# Altium integrated library Analog Devices Data Converters Analog-to-Digital Converters.IntLib: 2404 symbols (part 3 of 346)
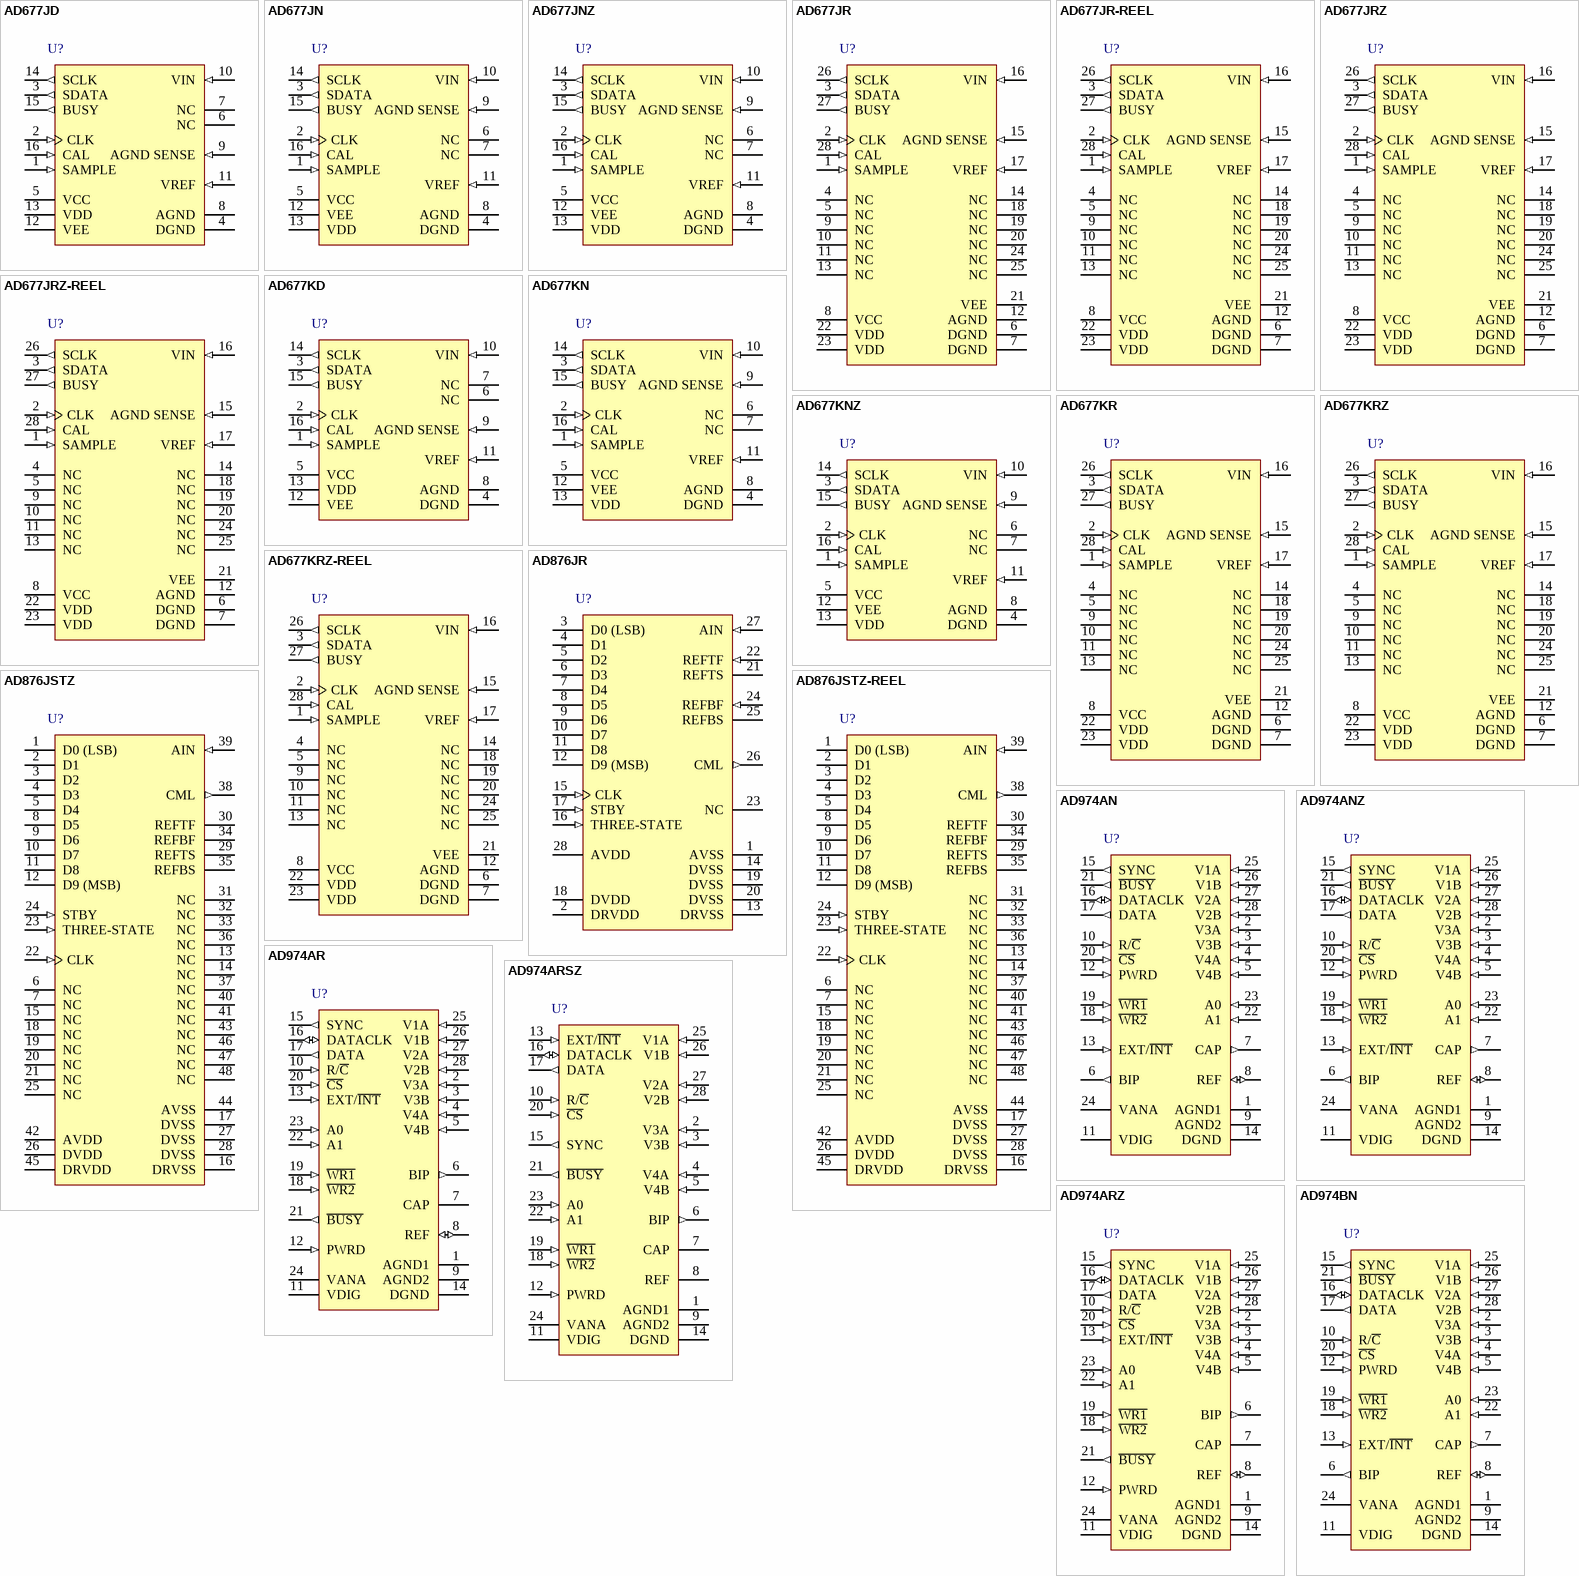
[diagram p157: symbols AD677JD to AD974BN]

## AD677JRZ-REEL
designator U?
Single 16-Bit Sampling Analog-to-Digital Converter with Serial Interface, 100KSPS, 0 to +70 degC, RW-28, Pb-Free, Reel; Generic Part Number: AD677; Manufacturer: Analog Devices; PartNumber: AD677JRZ-REEL; Resolution (Bits): 16; Channels: 1; Throughput Rate (SPS): 100K; Interface: Ser; DatasheetVersion: Rev.A; PackageVersion: 060706-A; PackageReference: RW-28; PackageDescription: 28-Lead Standard Small Outline Package [SOIC_W]; Supplier 1: Digi-Key; Supplier Part Number 1: AD677JRZ-REEL-ND; Supplier 2: Mouser; Supplier Part Number 2: 584-AD677JRZ-R; RoHS: Y; Packing: Reel; Mounting Technology: Surface Mount; Code_JEDEC: MS-013-AE; ComponentLink1Description: Manufacturer URL; ComponentLink1URL: http://www.analog.com/en/index.html; ComponentLink2Description: Datasheet; ComponentLink2URL: http://www.analog.com/static/imported-files/data_sheets/AD677.pdf; ComponentLink3Description: Package Specification; ComponentLink3URL: http://www.analog.com/static/imported-files/packages/35833120341221RW_28.pdf; ComponentLink4Description: Product URL; ComponentLink4URL: http://www.analog.com/en/analog-to-digital-converters/ad-converters/ad677/products/product.html
footprint RW-28_N (SOIC, 28-Leads, Body 17.9x7.5mm, Pitch 1.27mm, IPC Medium Density)
footprint RW-28_L (SOIC, 28-Leads, Body 17.9x7.5mm, Pitch 1.27mm, IPC High Density)
footprint RW-28_M (SOIC, 28-Leads, Body 17.9x7.5mm, Pitch 1.27mm, IPC Low Density)
pins: 1 SAMPLE (in) "VIN Acquisition Control Pin. Active HIGH. During conversion, SAMPLEcontrols the suite of the internal sample-hold amplifier and the falling edgeinitiates conversion. During calibration, SAMPLE should be held LOW. IfHIGH (See Datasheet)", 2 CLK (in) "Master Clock Input. The AD677 requires 17 clock pulses to execute a conversion. CLK is also used to derive SCLK.", 3 SDATA (out) "Serial Output Data Controlled by SCLK.", 4 NC "No Connection. No connections should be made to these pins.", 5 NC "No Connection. No connections should be made to these pins.", 6 DGND (power) "Digital Ground.", 7 DGND (power) "Digital Ground.", 8 VCC (power) "+12 V Analog Supply Voltage.", 9 NC "No Connection. No connections should be made to these pins.", 10 NC "No Connection. No connections should be made to these pins.", 11 NC "No Connection. No connections should be made to these pins.", 12 AGND (power) "Analog Ground.", 13 NC "No Connection. No connections should be made to these pins.", 14 NC "No Connection. No connections should be made to these pins.", 15 AGND SENSE (in) "Analog Ground Sense.", 16 VIN (in) "Analog Input Voltage", 17 VREF (in) "External Voltage Reference Input.", 18 NC "No Connection. No connections should be made to these pins.", 19 NC "No Connection. No connections should be made to these pins.", 20 NC "No Connection. No connections should be made to these pins.", 21 VEE (power) "-12 V Analog Supply Voltage.", 22 VDD (power) "+5 V Logic Supply Voltage.", 23 VDD (power) "+5 V Logic Supply Voltage.", 24 NC "No Connection. No connections should be made to these pins.", 25 NC "No Connection. No connections should be made to these pins.", 26 SCLK (out) "Clock Output for Data Read, derived from CLK.", 27 BUSY (out) "Status Line for Converter. Active HIGH, indicating a conversion or calibration in progress.", 28 CAL (in) "Calibration Control Pin."

## AD677KD
designator U?
Single 16-Bit Sampling Analog-to-Digital Converter with Serial Interface, 100KSPS, 0 to +70 degC, D-16, Tube; Generic Part Number: AD677; Manufacturer: Analog Devices; PartNumber: AD677KD; Resolution (Bits): 16; Channels: 1; Throughput Rate (SPS): 100K; Interface: Ser; DatasheetVersion: Rev.A; PackageVersion: Oct-2004; PackageReference: D-16; PackageDescription: 16-Lead Side-Brazed Ceramic Dual In-Line Package [SBDIP]; Supplier 1: Digi-Key; Supplier Part Number 1: AD677KD-ND; Supplier 2: Mouser; Supplier Part Number 2: 584-AD677KD; RoHS: N; Packing: Tube; Mounting Technology: Through-hole; ComponentLink1Description: Manufacturer URL; ComponentLink1URL: http://www.analog.com/en/index.html; ComponentLink2Description: Datasheet; ComponentLink2URL: http://www.analog.com/static/imported-files/data_sheets/AD677.pdf; ComponentLink3Description: Package Specification; ComponentLink3URL: http://www.analog.com/static/imported-files/packages/411773807540737148809448D_16.pdf; ComponentLink4Description: Product URL; ComponentLink4URL: http://www.analog.com/en/analog-to-digital-converters/ad-converters/ad677/products/product.html
footprint D-16 (DIP, 16-Leads, Row Spacing 7.62mm, Pitch 2.54mm, Body 21.3x6.7mm)
pins: 1 SAMPLE (in) "VIN Acquisition Control Pin. Active HIGH. During conversion, SAMPLE controls the suite of the internal sample-hold amplifier and the falling edge initiates conversion. During calibration, SAMPLE should be held LOW. If HIGH (See Datasheet)", 2 CLK (in) "Master Clock Input. The AD677 requires 17 clock pulses to execute a conversion. CLK is also used to derive SCLK.", 3 SDATA (out) "Serial Output Data Controlled by SCLK.", 4 DGND (power) "Digital Ground.", 5 VCC (power) "+12 V Analog Supply Voltage.", 6 NC "No Connection. No connections should be made to these pins.", 7 NC "No Connection. No connections should be made to these pins.", 8 AGND (power) "Analog Ground.", 9 AGND SENSE (in) "Analog Ground Sense.", 10 VIN (in) "Analog Input Voltage.", 11 VREF (in) "External Voltage Reference Input.", 12 VEE (power) "-12 V Analog Supply Voltage.", 13 VDD (power) "+5 V Logic Supply Voltage.", 14 SCLK (out) "Clock Output for Data Read, derived from CLK.", 15 BUSY (out) "Status Line for Converter. Active HIGH, indicating a conversion or calibration in progress.", 16 CAL (in) "Calibration Control Pin."

## AD677KN
designator U?
Single 16-Bit Sampling Analog-to-Digital Converter with Serial Interface, 100KSPS, 0 to +70 degC, N-16, Tube; Generic Part Number: AD677; Manufacturer: Analog Devices; PartNumber: AD677KN; Resolution (Bits): 16; Channels: 1; Throughput Rate (SPS): 100K; Interface: Ser; DatasheetVersion: Rev.A; PackageVersion: 070706-A; PackageReference: N-16; PackageDescription: 16-Lead Plastic Dual In-Line Package [PDIP] Narrow Body; Supplier 1: Digi-Key; Supplier Part Number 1: AD677KN-ND; Supplier 2: Mouser; Supplier Part Number 2: 584-AD677KN; RoHS: N; Packing: Tube; Mounting Technology: Through-hole; Code_JEDEC: MS-001; ComponentLink1Description: Manufacturer URL; ComponentLink1URL: http://www.analog.com/en/index.html; ComponentLink2Description: Datasheet; ComponentLink2URL: http://www.analog.com/static/imported-files/data_sheets/AD677.pdf; ComponentLink3Description: Package Specification; ComponentLink3URL: http://www.analog.com/static/imported-files/packages/44768431550332N_16.pdf; ComponentLink4Description: Product URL; ComponentLink4URL: http://www.analog.com/en/analog-to-digital-converters/ad-converters/ad677/products/product.html
footprint N-16 (DIP, 16-Leads, Row Spacing 7.62mm, Pitch 2.54mm, Body 20.1x6.6mm)
pins: 1 SAMPLE (in) "VIN  Acquisition Control Pin. Active HIGH. During conversion, SAMPLE controls the suite of the internal sample-hold amplifier and the falling edge initiates conversion. During calibration, SAMPLE should be held LOW. If HIGH (See Datasheet)", 2 CLK (in) "Master Clock Input. The AD677 requires 17 clock pulses to execute a conversion. CLK is also used to derive SCLK.", 3 SDATA (out) "Serial Output Data Controlled by SCLK.", 4 DGND (power) "Digital Ground.", 5 VCC (power) "+12 V Analog Supply Voltage.", 6 NC "No Connection. No connections should be made to these pins.", 7 NC "No Connection. No connections should be made to these pins.", 8 AGND (power) "Analog Ground.", 9 AGND SENSE (in) "Analog Ground Sense.", 10 VIN (in) "Analog Input Voltage.", 11 VREF (in) "External Voltage Reference Input.", 12 VEE (power) "-12 V Analog Supply Voltage.", 13 VDD (power) "+5 V Logic Supply Voltage.", 14 SCLK (out) "Clock Output for Data Read, derived from CLK.", 15 BUSY (out) "Status Line for Converter. Active HIGH, indicating a conversion or calibration in progress.", 16 CAL (in) "Calibration Control Pin."

## AD677KNZ
designator U?
Single 16-Bit Sampling Analog-to-Digital Converter with Serial Interface, 100KSPS, 0 to +70 degC, N-16, Pb-Free, Tube; Generic Part Number: AD677; Manufacturer: Analog Devices; PartNumber: AD677KNZ; Resolution (Bits): 16; Channels: 1; Throughput Rate (SPS): 100K; Interface: Ser; DatasheetVersion: Rev.A; PackageVersion: 070706-A; PackageReference: N-16; PackageDescription: 16-Lead Plastic Dual In-Line Package [PDIP] Narrow Body; Supplier 1: Digi-Key; Supplier Part Number 1: AD677KNZ-ND; Supplier 2: Newark; Supplier Part Number 2: 59K4512; Supplier 3: Mouser; Supplier Part Number 3: 584-AD677KNZ; RoHS: Y; Packing: Tube; Mounting Technology: Through-hole; Code_JEDEC: MS-001; ComponentLink1Description: Manufacturer URL; ComponentLink1URL: http://www.analog.com/en/index.html; ComponentLink2Description: Datasheet; ComponentLink2URL: http://www.analog.com/static/imported-files/data_sheets/AD677.pdf; ComponentLink3Description: Package Specification; ComponentLink3URL: http://www.analog.com/static/imported-files/packages/44768431550332N_16.pdf; ComponentLink4Description: Product URL; ComponentLink4URL: http://www.analog.com/en/analog-to-digital-converters/ad-converters/ad677/products/product.html
footprint N-16 (DIP, 16-Leads, Row Spacing 7.62mm, Pitch 2.54mm, Body 20.1x6.6mm)
pins: 1 SAMPLE (in) "VIN  Acquisition Control Pin. Active HIGH. During conversion, SAMPLE controls the suite of the internal sample-hold amplifier and the falling edge initiates conversion. During calibration, SAMPLE should be held LOW. If HIGH (See Datasheet)", 2 CLK (in) "Master Clock Input. The AD677 requires 17 clock pulses to execute a conversion. CLK is also used to derive SCLK.", 3 SDATA (out) "Serial Output Data Controlled by SCLK.", 4 DGND (power) "Digital Ground.", 5 VCC (power) "+12 V Analog Supply Voltage.", 6 NC "No Connection. No connections should be made to these pins.", 7 NC "No Connection. No connections should be made to these pins.", 8 AGND (power) "Analog Ground.", 9 AGND SENSE (in) "Analog Ground Sense.", 10 VIN (in) "Analog Input Voltage.", 11 VREF (in) "External Voltage Reference Input.", 12 VEE (power) "-12 V Analog Supply Voltage.", 13 VDD (power) "+5 V Logic Supply Voltage.", 14 SCLK (out) "Clock Output for Data Read, derived from CLK.", 15 BUSY (out) "Status Line for Converter. Active HIGH, indicating a conversion or calibration in progress.", 16 CAL (in) "Calibration Control Pin."

## AD677KR
designator U?
Single 16-Bit Sampling Analog-to-Digital Converter with Serial Interface, 100KSPS, 0 to +70 degC, RW-28, Tube; Generic Part Number: AD677; Manufacturer: Analog Devices; PartNumber: AD677KR; Resolution (Bits): 16; Channels: 1; Throughput Rate (SPS): 100K; Interface: Ser; DatasheetVersion: Rev.A; PackageVersion: 060706-A; PackageReference: RW-28; PackageDescription: 28-Lead Standard Small Outline Package [SOIC_W]; Supplier 1: Digi-Key; Supplier Part Number 1: AD677KR-ND; Supplier 2: Mouser; Supplier Part Number 2: 584-AD677KR; RoHS: N; Packing: Tube; Mounting Technology: Surface Mount; Code_JEDEC: MS-013-AE; ComponentLink1Description: Manufacturer URL; ComponentLink1URL: http://www.analog.com/en/index.html; ComponentLink2Description: Datasheet; ComponentLink2URL: http://www.analog.com/static/imported-files/data_sheets/AD677.pdf; ComponentLink3Description: Package Specification; ComponentLink3URL: http://www.analog.com/static/imported-files/packages/35833120341221RW_28.pdf; ComponentLink4Description: Product URL; ComponentLink4URL: http://www.analog.com/en/analog-to-digital-converters/ad-converters/ad677/products/product.html
footprint RW-28_N (SOIC, 28-Leads, Body 17.9x7.5mm, Pitch 1.27mm, IPC Medium Density)
footprint RW-28_L (SOIC, 28-Leads, Body 17.9x7.5mm, Pitch 1.27mm, IPC High Density)
footprint RW-28_M (SOIC, 28-Leads, Body 17.9x7.5mm, Pitch 1.27mm, IPC Low Density)
pins: 1 SAMPLE (in) "VIN Acquisition Control Pin. Active HIGH. During conversion, SAMPLEcontrols the suite of the internal sample-hold amplifier and the falling edgeinitiates conversion. During calibration, SAMPLE should be held LOW. IfHIGH (See Datasheet)", 2 CLK (in) "Master Clock Input. The AD677 requires 17 clock pulses to execute a conversion. CLK is also used to derive SCLK.", 3 SDATA (out) "Serial Output Data Controlled by SCLK.", 4 NC "No Connection. No connections should be made to these pins.", 5 NC "No Connection. No connections should be made to these pins.", 6 DGND (power) "Digital Ground.", 7 DGND (power) "Digital Ground.", 8 VCC (power) "+12 V Analog Supply Voltage.", 9 NC "No Connection. No connections should be made to these pins.", 10 NC "No Connection. No connections should be made to these pins.", 11 NC "No Connection. No connections should be made to these pins.", 12 AGND (power) "Analog Ground.", 13 NC "No Connection. No connections should be made to these pins.", 14 NC "No Connection. No connections should be made to these pins.", 15 AGND SENSE (in) "Analog Ground Sense.", 16 VIN (in) "Analog Input Voltage", 17 VREF (in) "External Voltage Reference Input.", 18 NC "No Connection. No connections should be made to these pins.", 19 NC "No Connection. No connections should be made to these pins.", 20 NC "No Connection. No connections should be made to these pins.", 21 VEE (power) "-12 V Analog Supply Voltage.", 22 VDD (power) "+5 V Logic Supply Voltage.", 23 VDD (power) "+5 V Logic Supply Voltage.", 24 NC "No Connection. No connections should be made to these pins.", 25 NC "No Connection. No connections should be made to these pins.", 26 SCLK (out) "Clock Output for Data Read, derived from CLK.", 27 BUSY (out) "Status Line for Converter. Active HIGH, indicating a conversion or calibration in progress.", 28 CAL (in) "Calibration Control Pin."

## AD677KRZ
designator U?
Single 16-Bit Sampling Analog-to-Digital Converter with Serial Interface, 100KSPS, 0 to +70 degC, RW-28, Pb-Free, Tube; Generic Part Number: AD677; Manufacturer: Analog Devices; PartNumber: AD677KRZ; Resolution (Bits): 16; Channels: 1; Throughput Rate (SPS): 100K; Interface: Ser; DatasheetVersion: Rev.A; PackageVersion: 060706-A; PackageReference: RW-28; PackageDescription: 28-Lead Standard Small Outline Package [SOIC_W]; Supplier 1: Digi-Key; Supplier Part Number 1: AD677KRZ-ND; Supplier 2: Newark; Supplier Part Number 2: 59K4513; Supplier 3: Mouser; Supplier Part Number 3: 584-AD677KRZ; RoHS: Y; Packing: Tube; Mounting Technology: Surface Mount; Code_JEDEC: MS-013-AE; ComponentLink1Description: Manufacturer URL; ComponentLink1URL: http://www.analog.com/en/index.html; ComponentLink2Description: Datasheet; ComponentLink2URL: http://www.analog.com/static/imported-files/data_sheets/AD677.pdf; ComponentLink3Description: Package Specification; ComponentLink3URL: http://www.analog.com/static/imported-files/packages/35833120341221RW_28.pdf; ComponentLink4Description: Product URL; ComponentLink4URL: http://www.analog.com/en/analog-to-digital-converters/ad-converters/ad677/products/product.html
footprint RW-28_N (SOIC, 28-Leads, Body 17.9x7.5mm, Pitch 1.27mm, IPC Medium Density)
footprint RW-28_L (SOIC, 28-Leads, Body 17.9x7.5mm, Pitch 1.27mm, IPC High Density)
footprint RW-28_M (SOIC, 28-Leads, Body 17.9x7.5mm, Pitch 1.27mm, IPC Low Density)
pins: 1 SAMPLE (in) "VIN Acquisition Control Pin. Active HIGH. During conversion, SAMPLEcontrols the suite of the internal sample-hold amplifier and the falling edgeinitiates conversion. During calibration, SAMPLE should be held LOW. IfHIGH (See Datasheet)", 2 CLK (in) "Master Clock Input. The AD677 requires 17 clock pulses to execute a conversion. CLK is also used to derive SCLK.", 3 SDATA (out) "Serial Output Data Controlled by SCLK.", 4 NC "No Connection. No connections should be made to these pins.", 5 NC "No Connection. No connections should be made to these pins.", 6 DGND (power) "Digital Ground.", 7 DGND (power) "Digital Ground.", 8 VCC (power) "+12 V Analog Supply Voltage.", 9 NC "No Connection. No connections should be made to these pins.", 10 NC "No Connection. No connections should be made to these pins.", 11 NC "No Connection. No connections should be made to these pins.", 12 AGND (power) "Analog Ground.", 13 NC "No Connection. No connections should be made to these pins.", 14 NC "No Connection. No connections should be made to these pins.", 15 AGND SENSE (in) "Analog Ground Sense.", 16 VIN (in) "Analog Input Voltage", 17 VREF (in) "External Voltage Reference Input.", 18 NC "No Connection. No connections should be made to these pins.", 19 NC "No Connection. No connections should be made to these pins.", 20 NC "No Connection. No connections should be made to these pins.", 21 VEE (power) "-12 V Analog Supply Voltage.", 22 VDD (power) "+5 V Logic Supply Voltage.", 23 VDD (power) "+5 V Logic Supply Voltage.", 24 NC "No Connection. No connections should be made to these pins.", 25 NC "No Connection. No connections should be made to these pins.", 26 SCLK (out) "Clock Output for Data Read, derived from CLK.", 27 BUSY (out) "Status Line for Converter. Active HIGH, indicating a conversion or calibration in progress.", 28 CAL (in) "Calibration Control Pin."

## AD677KRZ-REEL
designator U?
Single 16-Bit Sampling Analog-to-Digital Converter with Serial Interface, 100KSPS, 0 to +70 degC, RW-28, Pb-Free, Reel; Generic Part Number: AD677; Manufacturer: Analog Devices; PartNumber: AD677KRZ-REEL; Resolution (Bits): 16; Channels: 1; Throughput Rate (SPS): 100K; Interface: Ser; DatasheetVersion: Rev.A; PackageVersion: 060706-A; PackageReference: RW-28; PackageDescription: 28-Lead Standard Small Outline Package [SOIC_W]; Supplier 1: Digi-Key; Supplier Part Number 1: AD677KRZ-REEL-ND; Supplier 2: Mouser; Supplier Part Number 2: 584-AD677KRZ-R; RoHS: Y; Packing: Reel; Mounting Technology: Surface Mount; Code_JEDEC: MS-013-AE; ComponentLink1Description: Manufacturer URL; ComponentLink1URL: http://www.analog.com/en/index.html; ComponentLink2Description: Datasheet; ComponentLink2URL: http://www.analog.com/static/imported-files/data_sheets/AD677.pdf; ComponentLink3Description: Package Specification; ComponentLink3URL: http://www.analog.com/static/imported-files/packages/35833120341221RW_28.pdf; ComponentLink4Description: Product URL; ComponentLink4URL: http://www.analog.com/en/analog-to-digital-converters/ad-converters/ad677/products/product.html
footprint RW-28_N (SOIC, 28-Leads, Body 17.9x7.5mm, Pitch 1.27mm, IPC Medium Density)
footprint RW-28_L (SOIC, 28-Leads, Body 17.9x7.5mm, Pitch 1.27mm, IPC High Density)
footprint RW-28_M (SOIC, 28-Leads, Body 17.9x7.5mm, Pitch 1.27mm, IPC Low Density)
pins: 1 SAMPLE (in) "VIN Acquisition Control Pin. Active HIGH. During conversion, SAMPLEcontrols the suite of the internal sample-hold amplifier and the falling edgeinitiates conversion. During calibration, SAMPLE should be held LOW. IfHIGH (See Datasheet)", 2 CLK (in) "Master Clock Input. The AD677 requires 17 clock pulses to execute a conversion. CLK is also used to derive SCLK.", 3 SDATA (out) "Serial Output Data Controlled by SCLK.", 4 NC "No Connection. No connections should be made to these pins.", 5 NC "No Connection. No connections should be made to these pins.", 6 DGND (power) "Digital Ground.", 7 DGND (power) "Digital Ground.", 8 VCC (power) "+12 V Analog Supply Voltage.", 9 NC "No Connection. No connections should be made to these pins.", 10 NC "No Connection. No connections should be made to these pins.", 11 NC "No Connection. No connections should be made to these pins.", 12 AGND (power) "Analog Ground.", 13 NC "No Connection. No connections should be made to these pins.", 14 NC "No Connection. No connections should be made to these pins.", 15 AGND SENSE (in) "Analog Ground Sense.", 16 VIN (in) "Analog Input Voltage", 17 VREF (in) "External Voltage Reference Input.", 18 NC "No Connection. No connections should be made to these pins.", 19 NC "No Connection. No connections should be made to these pins.", 20 NC "No Connection. No connections should be made to these pins.", 21 VEE (power) "-12 V Analog Supply Voltage.", 22 VDD (power) "+5 V Logic Supply Voltage.", 23 VDD (power) "+5 V Logic Supply Voltage.", 24 NC "No Connection. No connections should be made to these pins.", 25 NC "No Connection. No connections should be made to these pins.", 26 SCLK (out) "Clock Output for Data Read, derived from CLK.", 27 BUSY (out) "Status Line for Converter. Active HIGH, indicating a conversion or calibration in progress.", 28 CAL (in) "Calibration Control Pin."

## AD876JR
designator U?
Single 10-Bit Analog-to-Digital Converter with Parallel Interface, 10-Bit 20 Msps 160 mW, CMOS, 20MSPS, 0 to +70 degC, RW-28, Tube; Generic Part Number: AD876; Manufacturer: Analog Devices; PartNumber: AD876JR; Resolution (Bits): 10; Channels: 1; Throughput Rate (SPS): 20M; Interface: Par; DatasheetVersion: Rev.B; PackageVersion: 060706-A; PackageReference: RW-28; PackageDescription: 28-Lead Standard Small Outline Package [SOIC_W]; Supplier 1: Digi-Key; Supplier Part Number 1: AD876JR-ND; Supplier 2: Newark; Supplier Part Number 2: 66F3267; Supplier 3: Mouser; Supplier Part Number 3: 584-AD876JR; RoHS: N; Packing: Tube; Mounting Technology: Surface Mount; Code_JEDEC: MS-013-AE; ComponentLink1Description: Manufacturer URL; ComponentLink1URL: http://www.analog.com/en/index.html; ComponentLink2Description: Datasheet; ComponentLink2URL: http://www.analog.com/static/imported-files/data_sheets/AD876.pdf; ComponentLink3Description: Package Specification; ComponentLink3URL: http://www.analog.com/static/imported-files/packages/35833120341221RW_28.pdf; ComponentLink4Description: Product URL; ComponentLink4URL: http://www.analog.com/en/analog-to-digital-converters/ad-converters/ad876/products/product.html
footprint RW-28_N (SOIC, 28-Leads, Body 17.9x7.5mm, Pitch 1.27mm, IPC Medium Density)
footprint RW-28_L (SOIC, 28-Leads, Body 17.9x7.5mm, Pitch 1.27mm, IPC High Density)
footprint RW-28_M (SOIC, 28-Leads, Body 17.9x7.5mm, Pitch 1.27mm, IPC Low Density)
pins: 1 AVSS (power) "Analog Ground.", 2 DRVDD (power) "+3.3 V/+5 V Digital Supply. Supply for digital input and output buffers.", 3 D0 (LSB) (hiz) "Least Significant Bit.", 4 D1 (hiz) "Data Bit 1.", 5 D2 (hiz) "Data Bit 2.", 6 D3 (hiz) "Data Bit 3.", 7 D4 (hiz) "Data Bit 4.", 8 D5 (hiz) "Data Bit 5.", 9 D6 (hiz) "Data Bit 6.", 10 D7 (hiz) "Data Bit 7.", 11 D8 (hiz) "Data Bit 8.", 12 D9 (MSB) (hiz) "Most Significant Bit.", 13 DRVSS (power) "+3.3 V/+5 V Digital Ground. Ground for digital input and output buffers.", 14 DVSS (power) "Digital Ground.", 15 CLK (in) "Clock Input.", 16 THREE-STATE (in) "THREE-STATE = LOW or N/C: Normal Operating Mode. THREE-STATE = HIGH: High Impedance Outputs", 17 STBY (in) "STBY = LOW or N/C: Normal Operating Mode. STBY = HIGH: Standby Mode", 18 DVDD (power) "+5 V Digital Supply.", 19 DVSS (power) "Digital Ground.", 20 DVSS (power) "Digital Ground.", 21 REFTS "Reference Top Sense.", 22 REFTF (in) "Reference Top Force.", 23 NC "No Connect.", 24 REFBF (in) "Reference Bottom Force.", 25 REFBS "Reference Bottom Sense.", 26 CML (out) "Bypass Pin for an Internal Bias Point.", 27 AIN (in) "Analog Input.", 28 AVDD (power) "+5 V Analog Supply."

## AD876JSTZ
designator U?
Single 10-Bit Analog-to-Digital Converter with Parallel Interface, 10-Bit 20 Msps 160 mW, CMOS, 20MSPS, 0 to +70 degC, ST-48, Pb-Free, Tray; Generic Part Number: AD876; Manufacturer: Analog Devices; PartNumber: AD876JSTZ; Resolution (Bits): 10; Channels: 1; Throughput Rate (SPS): 20M; Interface: Par; DatasheetVersion: Rev.B; PackageVersion: revA; PackageReference: ST-48; PackageDescription: 48-Pin Thin Quad Flat Pack 0.5 mm Pitch; Supplier 1: Digi-Key; Supplier Part Number 1: AD876JSTZ-ND; Supplier 2: Mouser; Supplier Part Number 2: 584-AD876JSTZ; RoHS: Y; Packing: Tray; Mounting Technology: Surface Mount; ComponentLink1Description: Manufacturer URL; ComponentLink1URL: http://www.analog.com/en/index.html; ComponentLink2Description: Datasheet; ComponentLink2URL: http://www.analog.com/static/imported-files/data_sheets/AD876.pdf; ComponentLink3Description: Package Specification; ComponentLink3URL: http://www.analog.com/static/imported-files/packages/PKG_PDF/LQFP%28ST%29/ST_48.pdf; ComponentLink4Description: Product URL; ComponentLink4URL: http://www.analog.com/en/analog-to-digital-converters/ad-converters/ad876/products/product.html
footprint ST-48_N (Thin QFP, 48-Leads, Body 7x7mm, Pitch 0.5mm, IPC Medium Density)
footprint ST-48_L (Thin QFP, 48-Leads, Body 7x7mm, Pitch 0.5mm, IPC High Density)
footprint ST-48_M (Thin QFP, 48-Leads, Body 7x7mm, Pitch 0.5mm, IPC Low Density)
pins: 1 D0 (LSB) "Least Significant Bit.", 2 D1 (hiz) "Data Bit 1.", 3 D2 (hiz) "Data Bit 2.", 4 D3 (hiz) "Data Bit 3.", 5 D4 (hiz) "Data Bit 4.", 6 NC "No Connect.", 7 NC "No Connect.", 8 D5 (hiz) "Data Bit 5.", 9 D6 (hiz) "Data Bit 6.", 10 D7 (hiz) "Data Bit 7.", 11 D8 (hiz) "Data Bit 8.", 12 D9 (MSB) (hiz) "Most Significant Bit.", 13 NC "No Connect.", 14 NC "No Connect.", 15 NC "No Connect.", 16 DRVSS (power) "+3.3 V/+5 V Digital Ground. Ground for digital N289 input and output buffers.", 17 DVSS (power) "Digital Ground.", 18 NC "No Connect.", 19 NC "No Connect.", 20 NC "No Connect.", 21 NC "No Connect.", 22 CLK (in) "Clock Input.", 23 THREE-STATE (in) "THREE-STATE = LOW or N/C,Normal Operating Mode.THREE-STATE = HIGH,High Impedance  Outputs.", 24 STBY (in) "STBY = LOW or N/C,Normal Operating Mode. STBY = HIGH,Standby Mode.", 25 NC "No Connect.", 26 DVDD (power) "+5 V Digital Supply.", 27 DVSS (power) "Digital Ground.", 28 DVSS (power) "Digital Ground.", 29 REFTS "Reference Top Sense.", 30 REFTF "Reference Top Force.", 31 NC "No Connect.", 32 NC "No Connect.", 33 NC "No Connect.", 34 REFBF "Reference Bottom Force.", 35 REFBS "Reference Bottom Sense.", 36 NC "No Connect.", 37 NC "No Connect.", 38 CML (out) "Bypass Pin for an Internal Bias Point.", 39 AIN (in) "Analog Input.", 40 NC "No Connect.", 41 NC "No Connect.", 42 AVDD (power) "+5 V Analog Supply.", 43 NC "No Connect.", 44 AVSS (power) "Analog Ground.", 45 DRVDD (power) "+3.3 V/+5 V Digital Supply. Supply for digital input and output buffers.", 46 NC "No Connect.", 47 NC "No Connect.", 48 NC "No Connect."

## AD876JSTZ-REEL
designator U?
Single 10-Bit Analog-to-Digital Converter with Parallel Interface, 10-Bit 20 Msps 160 mW, CMOS, 20MSPS, 0 to +70 degC, ST-48, Pb-Free, Reel; Generic Part Number: AD876; Manufacturer: Analog Devices; PartNumber: AD876JSTZ-REEL; Resolution (Bits): 10; Channels: 1; Throughput Rate (SPS): 20M; Interface: Par; DatasheetVersion: Rev.B; PackageVersion: revA; PackageReference: ST-48; PackageDescription: 48-Pin Thin Quad Flat Pack 0.5 mm Pitch; Supplier 1: Mouser; Supplier Part Number 1: N/A; RoHS: Y; Packing: Reel; Mounting Technology: Surface Mount; ComponentLink1Description: Manufacturer URL; ComponentLink1URL: http://www.analog.com/en/index.html; ComponentLink2Description: Datasheet; ComponentLink2URL: http://www.analog.com/static/imported-files/data_sheets/AD876.pdf; ComponentLink3Description: Package Specification; ComponentLink3URL: http://www.analog.com/static/imported-files/packages/PKG_PDF/LQFP%28ST%29/ST_48.pdf; ComponentLink4Description: Product URL; ComponentLink4URL: http://www.analog.com/en/analog-to-digital-converters/ad-converters/ad876/products/product.html
footprint ST-48_N (Thin QFP, 48-Leads, Body 7x7mm, Pitch 0.5mm, IPC Medium Density)
footprint ST-48_L (Thin QFP, 48-Leads, Body 7x7mm, Pitch 0.5mm, IPC High Density)
footprint ST-48_M (Thin QFP, 48-Leads, Body 7x7mm, Pitch 0.5mm, IPC Low Density)
pins: 1 D0 (LSB) "Least Significant Bit.", 2 D1 (hiz) "Data Bit 1.", 3 D2 (hiz) "Data Bit 2.", 4 D3 (hiz) "Data Bit 3.", 5 D4 (hiz) "Data Bit 4.", 6 NC "No Connect.", 7 NC "No Connect.", 8 D5 (hiz) "Data Bit 5.", 9 D6 (hiz) "Data Bit 6.", 10 D7 (hiz) "Data Bit 7.", 11 D8 (hiz) "Data Bit 8.", 12 D9 (MSB) (hiz) "Most Significant Bit.", 13 NC "No Connect.", 14 NC "No Connect.", 15 NC "No Connect.", 16 DRVSS (power) "+3.3 V/+5 V Digital Ground. Ground for digital N289 input and output buffers.", 17 DVSS (power) "Digital Ground.", 18 NC "No Connect.", 19 NC "No Connect.", 20 NC "No Connect.", 21 NC "No Connect.", 22 CLK (in) "Clock Input.", 23 THREE-STATE (in) "THREE-STATE = LOW or N/C,Normal Operating Mode.THREE-STATE = HIGH,High Impedance  Outputs.", 24 STBY (in) "STBY = LOW or N/C,Normal Operating Mode. STBY = HIGH,Standby Mode.", 25 NC "No Connect.", 26 DVDD (power) "+5 V Digital Supply.", 27 DVSS (power) "Digital Ground.", 28 DVSS (power) "Digital Ground.", 29 REFTS "Reference Top Sense.", 30 REFTF "Reference Top Force.", 31 NC "No Connect.", 32 NC "No Connect.", 33 NC "No Connect.", 34 REFBF "Reference Bottom Force.", 35 REFBS "Reference Bottom Sense.", 36 NC "No Connect.", 37 NC "No Connect.", 38 CML (out) "Bypass Pin for an Internal Bias Point.", 39 AIN (in) "Analog Input.", 40 NC "No Connect.", 41 NC "No Connect.", 42 AVDD (power) "+5 V Analog Supply.", 43 NC "No Connect.", 44 AVSS (power) "Analog Ground.", 45 DRVDD (power) "+3.3 V/+5 V Digital Supply. Supply for digital input and output buffers.", 46 NC "No Connect.", 47 NC "No Connect.", 48 NC "No Connect."

## AD974AN
designator U?
4 Channel, 16-Bit, 200 ksps Data Acquisition System, 200KSPS, -40 to +85 degC, N-28-2, Tube; Generic Part Number: AD974; Manufacturer: Analog Devices; PartNumber: AD974AN; Resolution (Bits): 16; Channels: 4; Throughput Rate (SPS): 200K; Interface: Ser, SPI; DatasheetVersion: Rev.A; PackageVersion: 071006-A; PackageReference: N-28-2; PackageDescription: 28-Lead Plastic Dual In-Line Package [PDIP]; Supplier 1: Digi-Key; Supplier Part Number 1: AD974AN-ND; Supplier 2: Mouser; Supplier Part Number 2: 584-AD974AN; RoHS: N; Packing: Tube; Mounting Technology: Through-hole; Code_JEDEC: MS-011; ComponentLink1Description: Manufacturer URL; ComponentLink1URL: http://www.analog.com/en/index.html; ComponentLink2Description: Datasheet; ComponentLink2URL: http://www.analog.com/static/imported-files/data_sheets/AD974.pdf; ComponentLink3Description: Package Specification; ComponentLink3URL: http://www.analog.com/static/imported-files/packages/50849324123784N_28_2.pdf; ComponentLink4Description: Product URL; ComponentLink4URL: http://www.analog.com/en/analog-to-digital-converters/ad-converters/ad974/products/product.html
footprint N-28-2 (DIP, 28-Leads, Row Spacing 15.55mm, Pitch 2.54mm, Body 37.4x13.5mm)
pins: 1 AGND1 (power) "Analog Ground. Used as the ground reference point for the REF pin.", 2 V3A (in) "Analog Input.  Refer to Table I for input range configuration.", 3 V3B (in) "Analog Input.  Refer to Table I for input range configuration.", 4 V4A (in) "Analog Input.  Refer to Table I for input range configuration.", 5 V4B (in) "Analog Input.  Refer to Table I for input range configuration.", 6 BIP (out) "Bipolar Offset. Connect VxA inputs to provide Bipolar input range.", 7 CAP (out) "Reference Buffer Output.  Connect a 2.2 uF tantalum capacitor between CAP and Analog Ground.", 8 REF (io) "Reference Input/Output. The internal +2.5 V reference is available at this pin. Alternatively an external reference can be used to override the internal reference.  In either case, connect a 2.2 uF tantalum capacitor between (See Datasheet)", 9 AGND2 (power) "Analog Ground.", 10 R/~{C} (in) "Read/C\o\n\v\e\r\t\ Input. Used to control the conversion and read modes. With C\S\ LOW, a falling edge on R/C\ holds the analog input signal internally and starts a conversion; a rising edge enables the transmission of the (See Datasheet)", 11 VDIG (power) "Digital Power Supply. Nominally +5 V.", 12 PWRD (in) "Power-Down Input. When set to a logic HIGH, power consumption is reduced and conversions are inhibited. The conversion result from the previous conversion is stored in the onboard shift register.", 13 EXT/~{INT} (in) "Digital select input for choosing the internal or an external data clock. With EXT/I\N\T\tied LOW, after initiating a conversion, 16 DATACLK pulses transmit the previous conversion result as shown in Figure 3. With (See Datasheet)", 14 DGND (power) "Digital Ground.", 15 SYNC (out) "Digital output frame synchronization for use with an external data clock (EXT/I\N\T\ = Logic HIGH). When a read sequence is initiated, a pulse one DATACLK period wide is output synchronous to the external data clock.", 16 DATACLK (io) "Serial data clock input or output, dependent upon the logic state of the EXT/I\N\T\ pin. When using the internal data clock (EXT/I\N\T\ = Logic LOW), a conversion start sequence will initiate transmission of 16 DATACLK (See Datasheet)", 17 DATA (out) "The serial data output is synchronized to DATACLK.  Conversion results are stored in an onchip register.  The AD974 provides the conversion result, MSB first, from its internal shift register.  When using the internal data (See Datasheet)", 18 ~{WR2} (in) "Multiplexer Write Inputs.  These inputs are internally ORed to generate the mux latch inputs. The latch is transparent when W\R\1\ and W\R\2\ are tied low.", 19 ~{WR1} (in) "Multiplexer Write Inputs.  These inputs are internally ORed to generate the mux latch inputs. The latch is transparent when W\R\1\ and W\R\2\ are tied low.", 20 ~{CS} (in) "Chip Select Input. With R/C\ LOW, a falling edge on C\S\ will initiate a conversion. With R/C\ HIGH, a falling edge on C\S\ will enable the serial data output sequence.", 21 ~{BUSY} (out) "Busy Output. Goes LOW when a conversion is started, and remains LOW until the conversion is completed and the data is latched into the on-chip shift register.", 22 A1 (in) "Address multiplexer inputs latched with the W\R\1\, W\R\2\ inputs.", 23 A0 (in) "Address multiplexer inputs latched with the W\R\1\, W\R\2\ inputs.", 24 VANA (power) "Analog Power Supply. Nominally +5 V.", 25 V1A (in) "Analog Input.  Refer to Table I for input range configuration.", 26 V1B (in) "Analog Input.  Refer to Table I for input range configuration.", 27 V2A (in) "Analog Input.  Refer to Table I for input range configuration.", 28 V2B (in) "Analog Input.  Refer to Table I for input range configuration."

## AD974ANZ
designator U?
4 Channel, 16-Bit, 200 ksps Data Acquisition System, 200KSPS, -40 to +85 degC, N-28-2, Pb-Free, Tube; Generic Part Number: AD974; Manufacturer: Analog Devices; PartNumber: AD974ANZ; Resolution (Bits): 16; Channels: 4; Throughput Rate (SPS): 200K; Interface: Ser, SPI; DatasheetVersion: Rev.A; PackageVersion: 071006-A; PackageReference: N-28-2; PackageDescription: 28-Lead Plastic Dual In-Line Package [PDIP]; Supplier 1: Digi-Key; Supplier Part Number 1: AD974ANZ-ND; Supplier 2: Newark; Supplier Part Number 2: 12M9243; Supplier 3: Mouser; Supplier Part Number 3: 584-AD974ANZ; RoHS: Y; Packing: Tube; Mounting Technology: Through-hole; Code_JEDEC: MS-011; ComponentLink1Description: Manufacturer URL; ComponentLink1URL: http://www.analog.com/en/index.html; ComponentLink2Description: Datasheet; ComponentLink2URL: http://www.analog.com/static/imported-files/data_sheets/AD974.pdf; ComponentLink3Description: Package Specification; ComponentLink3URL: http://www.analog.com/static/imported-files/packages/50849324123784N_28_2.pdf; ComponentLink4Description: Product URL; ComponentLink4URL: http://www.analog.com/en/analog-to-digital-converters/ad-converters/ad974/products/product.html
footprint N-28-2 (DIP, 28-Leads, Row Spacing 15.55mm, Pitch 2.54mm, Body 37.4x13.5mm)
pins: 1 AGND1 (power) "Analog Ground. Used as the ground reference point for the REF pin.", 2 V3A (in) "Analog Input.  Refer to Table I for input range configuration.", 3 V3B (in) "Analog Input.  Refer to Table I for input range configuration.", 4 V4A (in) "Analog Input.  Refer to Table I for input range configuration.", 5 V4B (in) "Analog Input.  Refer to Table I for input range configuration.", 6 BIP (out) "Bipolar Offset. Connect VxA inputs to provide Bipolar input range.", 7 CAP (out) "Reference Buffer Output.  Connect a 2.2 uF tantalum capacitor between CAP and Analog Ground.", 8 REF (io) "Reference Input/Output. The internal +2.5 V reference is available at this pin. Alternatively an external reference can be used to override the internal reference.  In either case, connect a 2.2 uF tantalum capacitor between (See Datasheet)", 9 AGND2 (power) "Analog Ground.", 10 R/~{C} (in) "Read/C\o\n\v\e\r\t\ Input. Used to control the conversion and read modes. With C\S\ LOW, a falling edge on R/C\ holds the analog input signal internally and starts a conversion; a rising edge enables the transmission of the (See Datasheet)", 11 VDIG (power) "Digital Power Supply. Nominally +5 V.", 12 PWRD (in) "Power-Down Input. When set to a logic HIGH, power consumption is reduced and conversions are inhibited. The conversion result from the previous conversion is stored in the onboard shift register.", 13 EXT/~{INT} (in) "Digital select input for choosing the internal or an external data clock. With EXT/I\N\T\tied LOW, after initiating a conversion, 16 DATACLK pulses transmit the previous conversion result as shown in Figure 3. With (See Datasheet)", 14 DGND (power) "Digital Ground.", 15 SYNC (out) "Digital output frame synchronization for use with an external data clock (EXT/I\N\T\ = Logic HIGH). When a read sequence is initiated, a pulse one DATACLK period wide is output synchronous to the external data clock.", 16 DATACLK (io) "Serial data clock input or output, dependent upon the logic state of the EXT/I\N\T\ pin. When using the internal data clock (EXT/I\N\T\ = Logic LOW), a conversion start sequence will initiate transmission of 16 DATACLK (See Datasheet)", 17 DATA (out) "The serial data output is synchronized to DATACLK.  Conversion results are stored in an onchip register.  The AD974 provides the conversion result, MSB first, from its internal shift register.  When using the internal data (See Datasheet)", 18 ~{WR2} (in) "Multiplexer Write Inputs.  These inputs are internally ORed to generate the mux latch inputs. The latch is transparent when W\R\1\ and W\R\2\ are tied low.", 19 ~{WR1} (in) "Multiplexer Write Inputs.  These inputs are internally ORed to generate the mux latch inputs. The latch is transparent when W\R\1\ and W\R\2\ are tied low.", 20 ~{CS} (in) "Chip Select Input. With R/C\ LOW, a falling edge on C\S\ will initiate a conversion. With R/C\ HIGH, a falling edge on C\S\ will enable the serial data output sequence.", 21 ~{BUSY} (out) "Busy Output. Goes LOW when a conversion is started, and remains LOW until the conversion is completed and the data is latched into the on-chip shift register.", 22 A1 (in) "Address multiplexer inputs latched with the W\R\1\, W\R\2\ inputs.", 23 A0 (in) "Address multiplexer inputs latched with the W\R\1\, W\R\2\ inputs.", 24 VANA (power) "Analog Power Supply. Nominally +5 V.", 25 V1A (in) "Analog Input.  Refer to Table I for input range configuration.", 26 V1B (in) "Analog Input.  Refer to Table I for input range configuration.", 27 V2A (in) "Analog Input.  Refer to Table I for input range configuration.", 28 V2B (in) "Analog Input.  Refer to Table I for input range configuration."

## AD974AR
designator U?
4 Channel, 16-Bit, 200 ksps Data Acquisition System, 200KSPS, -40 to +85 degC, RW-28, Tube; Generic Part Number: AD974; Manufacturer: Analog Devices; PartNumber: AD974AR; Resolution (Bits): 16; Channels: 4; Throughput Rate (SPS): 200K; Interface: Ser, SPI; DatasheetVersion: Rev.A; PackageVersion: 060706-A; PackageReference: RW-28; PackageDescription: 28-Lead Standard Small Outline Package [SOIC_W]; Supplier 1: Digi-Key; Supplier Part Number 1: AD974AR-ND; Supplier 2: Mouser; Supplier Part Number 2: 584-AD974AR; RoHS: N; Packing: Tube; Mounting Technology: Surface Mount; Code_JEDEC: MS-013-AE; ComponentLink1Description: Manufacturer URL; ComponentLink1URL: http://www.analog.com/en/index.html; ComponentLink2Description: Datasheet; ComponentLink2URL: http://www.analog.com/static/imported-files/data_sheets/AD974.pdf; ComponentLink3Description: Package Specification; ComponentLink3URL: http://www.analog.com/static/imported-files/packages/35833120341221RW_28.pdf; ComponentLink4Description: Product URL; ComponentLink4URL: http://www.analog.com/en/analog-to-digital-converters/ad-converters/ad974/products/product.html
footprint RW-28_N (SOIC, 28-Leads, Body 17.9x7.5mm, Pitch 1.27mm, IPC Medium Density)
footprint RW-28_L (SOIC, 28-Leads, Body 17.9x7.5mm, Pitch 1.27mm, IPC High Density)
footprint RW-28_M (SOIC, 28-Leads, Body 17.9x7.5mm, Pitch 1.27mm, IPC Low Density)
pins: 1 AGND1 (power) "Analog Ground. Used as the ground reference point for the REF pin.", 2 V3A (in) "Analog Input.  Refer to Table I for input range configuration.", 3 V3B (in) "Analog Input.  Refer to Table I for input range configuration.", 4 V4A (in) "Analog Input.  Refer to Table I for input range configuration.", 5 V4B (in) "Analog Input.  Refer to Table I for input range configuration.", 6 BIP (out) "Bipolar Offset. Connect VxA inputs to provide Bipolar input range.", 7 CAP "Reference Buffer Output.  Connect a 2.2 µF tantalum capacitor between CAP and Analog Ground.", 8 REF (io) "Reference Input/Output. The internal +2.5 V reference is available at this pin. Alternatively an external reference can be used to override the internal reference.  In either case, connect a 2.2 µF tantalum capacitor between (See Datasheet)", 9 AGND2 (power) "Analog Ground.", 10 R/~{C} (in) "Read/C\o\n\v\e\r\t\ Input. Used to control the conversion and read modes. With C\S\ LOW, a falling edge on R/C\ holds the analog input signal internally and starts a conversion; a rising edge enables the transmission of the (See Datasheet)", 11 VDIG (power) "Digital Power Supply. Nominally +5 V.", 12 PWRD (in) "Power-Down Input. When set to a logic HIGH, power consumption is reduced and conversions are inhibited. The conversion result from the previous conversion is stored in the onboard shift register.", 13 EXT/~{INT} (in) "Digital select input for choosing the internal or an external data clock. With EXT/I\N\T\tied LOW, after initiating a conversion, 16 DATACLK pulses transmit the previous conversion result as shown in Figure 3. With (See Datasheet)", 14 DGND (power) "Digital Ground.", 15 SYNC (out) "Digital output frame synchronization for use with an external data clock (EXT/I\N\T\ = Logic HIGH). When a read sequence is initiated, a pulse one DATACLK period wide is output synchronous to the external data clock.", 16 DATACLK (io) "Serial data clock input or output, dependent upon the logic state of the EXT/I\N\T\ pin. When using the internal data clock (EXT/I\N\T\ = Logic LOW), a conversion start sequence will initiate transmission of 16 DATACLK (See Datasheet)", 17 DATA (out) "The serial data output is synchronized to DATACLK.  Conversion results are stored in an onchip register.  The AD974 provides the conversion result, MSB first, from its internal shift register.  When using the internal data (See Datasheet)", 18 ~{WR2} (in) "Multiplexer Write Inputs.  These inputs are internally ORed to generate the mux latch inputs. The latch is transparent when W\R\1\ and W\R\2\ are tied low.", 19 ~{WR1} (in) "Multiplexer Write Inputs.  These inputs are internally ORed to generate the mux latch inputs. The latch is transparent when W\R\1\ and W\R\2\ are tied low.", 20 ~{CS} (in) "Chip Select Input. With R/C\ LOW, a falling edge on C\S\ will initiate a conversion. With R/C\ HIGH, a falling edge on C\S\ will enable the serial data output sequence.", 21 ~{BUSY} (out) "Busy Output. Goes LOW when a conversion is started, and remains LOW until the conversion is completed and the data is latched into the on-chip shift register.", 22 A1 (in) "Address multiplexer inputs latched with the W\R\1\, W\R\2\ inputs.", 23 A0 (in) "Address multiplexer inputs latched with the W\R\1\, W\R\2\ inputs.", 24 VANA (power) "Analog Power Supply. Nominally +5 V.", 25 V1A (in) "Analog Input.  Refer to Table I for input range configuration.", 26 V1B (in) "Analog Input.  Refer to Table I for input range configuration.", 27 V2A (in) "Analog Input.  Refer to Table I for input range configuration.", 28 V2B (in) "Analog Input.  Refer to Table I for input range configuration."

## AD974ARSZ
designator U?
4 Channel, 16-Bit, 200 ksps Data Acquisition System, 200KSPS, -40 to +85 degC, RS-28, Pb-Free, Tube; Generic Part Number: AD974; Manufacturer: Analog Devices; PartNumber: AD974ARSZ; Resolution (Bits): 16; Channels: 4; Throughput Rate (SPS): 200K; Interface: Ser, SPI; DatasheetVersion: Rev.A; PackageVersion: 060106-A; PackageReference: RS-28; PackageDescription: 28-Lead Shrink Small Outline Package [SSOP]; Supplier 1: Digi-Key; Supplier Part Number 1: AD974ARSZ-ND; Supplier 2: Newark; Supplier Part Number 2: 59K7331; Supplier 3: Mouser; Supplier Part Number 3: 584-AD974ARSZ; RoHS: Y; Packing: Tube; Mounting Technology: Surface Mount; Code_JEDEC: MO-150-AH; ComponentLink1Description: Manufacturer URL; ComponentLink1URL: http://www.analog.com/en/index.html; ComponentLink2Description: Datasheet; ComponentLink2URL: http://www.analog.com/static/imported-files/data_sheets/AD974.pdf; ComponentLink3Description: Package Specification; ComponentLink3URL: http://www.analog.com/static/imported-files/packages/32122249223724RS_28.pdf; ComponentLink4Description: Product URL; ComponentLink4URL: http://www.analog.com/en/analog-to-digital-converters/ad-converters/ad974/products/product.html
footprint RS-28_N (SOP, 28-Leads, Body 10.2x5.3mm, Pitch 0.65mm, IPC Medium Density)
footprint RS-28_L (SOP, 28-Leads, Body 10.2x5.3mm, Pitch 0.65mm, IPC High Density)
footprint RS-28_M (SOP, 28-Leads, Body 10.2x5.3mm, Pitch 0.65mm, IPC Low Density)
pins: 1 AGND1 (power) "Analog Ground. Used as the ground reference point for the REF pin.", 2 V3A (in) "Analog Input.  Refer to Table I for input range configuration.", 3 V3B (in) "Analog Input.  Refer to Table I for input range configuration.", 4 V4A (in) "Analog Input.  Refer to Table I for input range configuration.", 5 V4B (in) "Analog Input.  Refer to Table I for input range configuration.", 6 BIP (out) "Bipolar Offset. Connect VxA inputs to provide Bipolar input range.", 7 CAP "Reference Buffer Output.  Connect a 2.2 µF tantalum capacitor between CAP and Analog Ground.", 8 REF "Reference Input/Output. The internal +2.5 V reference is available at this pin. Alternatively an external reference can be used to override the internal reference.  In either case, connect a 2.2 µF tantalum capacitor between (See Datasheet)", 9 AGND2 (power) "Analog Ground.", 10 R/~{C} (in) "Read/C\o\n\v\e\r\t\ Input. Used to control the conversion and read modes. With C\S\ LOW, a falling edge on R/C\ holds the analog input signal internally and starts a conversion; a rising edge enables the transmission of the (See Datasheet)", 11 VDIG (power) "Digital Power Supply. Nominally +5 V.", 12 PWRD (in) "Power-Down Input. When set to a logic HIGH, power consumption is reduced and conversions are inhibited. The conversion result from the previous conversion is stored in the onboard shift register.", 13 EXT/~{INT} (in) "Digital select input for choosing the internal or an external data clock. With EXT/I\N\T\tied LOW, after initiating a conversion, 16 DATACLK pulses transmit the previous conversion result as shown in Figure 3. With (See Datasheet)", 14 DGND (power) "Digital Ground.", 15 SYNC (out) "Digital output frame synchronization for use with an external data clock (EXT/I\N\T\ = Logic HIGH). When a read sequence is initiated, a pulse one DATACLK period wide is output synchronous to the external data clock.", 16 DATACLK (io) "Serial data clock input or output, dependent upon the logic state of the EXT/I\N\T\ pin. When using the internal data clock (EXT/I\N\T\ = Logic LOW), a conversion start sequence will initiate transmission of 16 DATACLK (See Datasheet)", 17 DATA (out) "The serial data output is synchronized to DATACLK.  Conversion results are stored in an onchip register.  The AD974 provides the conversion result, MSB first, from its internal shift register.  When using the internal data (See Datasheet)", 18 ~{WR2} (in) "Multiplexer Write Inputs.  These inputs are internally ORed to generate the mux latch inputs. The latch is transparent when W\R\1\ and W\R\2\ are tied low.", 19 ~{WR1} (in) "Multiplexer Write Inputs.  These inputs are internally ORed to generate the mux latch inputs. The latch is transparent when W\R\1\ and W\R\2\ are tied low.", 20 ~{CS} (in) "Chip Select Input. With R/C\ LOW, a falling edge on C\S\ will initiate a conversion. With R/C\ HIGH, a falling edge on C\S\ will enable the serial data output sequence.", 21 ~{BUSY} (out) "Busy Output. Goes LOW when a conversion is started, and remains LOW until the conversion is completed and the data is latched into the on-chip shift register.", 22 A1 (in) "Address multiplexer inputs latched with the W\R\1\, W\R\2\ inputs.", 23 A0 (in) "Address multiplexer inputs latched with the W\R\1\, W\R\2\ inputs.", 24 VANA (power) "Analog Power Supply. Nominally +5 V.", 25 V1A (in) "Analog Input.  Refer to Table I for input range configuration.", 26 V1B (in) "Analog Input.  Refer to Table I for input range configuration.", 27 V2A (in) "Analog Input.  Refer to Table I for input range configuration.", 28 V2B (in) "Analog Input.  Refer to Table I for input range configuration."